# Altium integrated library Capacitor - Ceramic - Sumsung.IntLib: 1421 symbols (part 4 of 22)
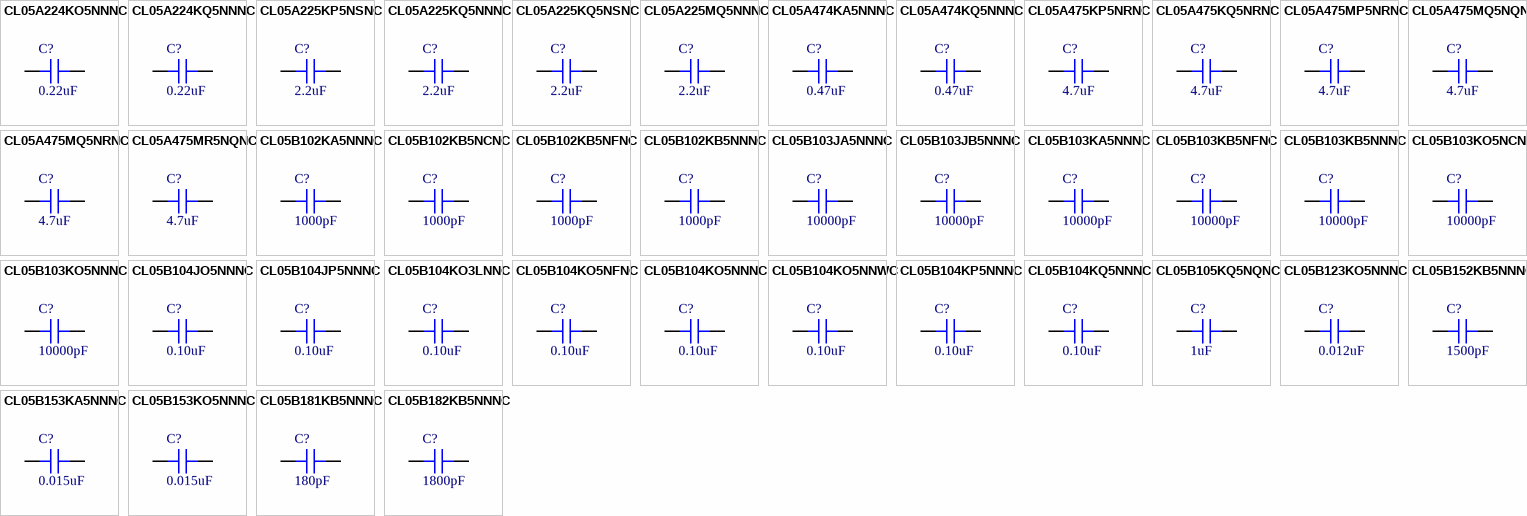
[diagram p38: symbols CL05A224KO5NNNC to CL05B182KB5NNNC]

## CL05B104KQ5NNNC
designator C?, comment 0.10uF
CAP CER 0.1UF 6.3V X7R 0402; Part Number: CL05B104KQ5NNNC; Manufacturer: Samsung Electro-Mechanics America, Inc.; TemperatureRange: -55C ~ 125C; Tolerance: 10%; Value: 0.10uF; PartId: 12498; Supplier 1: Digi-Key; Supplier Part Number 1: 1276-1511-2-ND; ComponentLink1Description: Datasheet; ComponentLink1URL: http://www.samsungsem.com/kr/support/product-search/mlcc/CL05B104KQ5NNNC.jsp; ComponentLink2Description: Digi-Key Listing; ComponentLink2URL: https://www.digikey.com/product-detail/en/samsung-electro-mechanics-america-inc/CL05B104KQ5NNNC/1276-1511-2-ND/3887169; TemperatureCoefficient: X7R; Voltage: 6.3V; Price: 0.002; Device Package: 0402 (1005 Metric)
footprint CAP 0402/1005
pins: 1, 2

## CL05B105KQ5NQNC
designator C?, comment 1uF
CAP CER 1UF 6.3V X7R 0402; Part Number: CL05B105KQ5NQNC; Manufacturer: Samsung Electro-Mechanics America, Inc.; TemperatureRange: -55C ~ 125C; Tolerance: 10%; Value: 1uF; PartId: 12391; Supplier 1: Digi-Key; Supplier Part Number 1: 1276-1513-2-ND; ComponentLink1Description: Datasheet; ComponentLink1URL: http://www.samsungsem.com/kr/support/library/product-catalog/__icsFiles/afieldfile/2015/11/18/MLCC.pdf; ComponentLink2Description: Digi-Key Listing; ComponentLink2URL: https://www.digikey.com/product-detail/en/samsung-electro-mechanics-america-inc/CL05B105KQ5NQNC/1276-1513-2-ND/3887171; TemperatureCoefficient: X7R; Voltage: 6.3V; Price: 0.038; Device Package: 0402 (1005 Metric)
footprint CAP 0402/1005
pins: 1, 2

## CL05B123KO5NNNC
designator C?, comment 0.012uF
CAP CER 0.012UF 16V X7R 0402; Part Number: CL05B123KO5NNNC; Manufacturer: Samsung Electro-Mechanics America, Inc.; TemperatureRange: -55C ~ 125C; Tolerance: 10%; Value: 0.012uF; PartId: 12880; Supplier 1: Digi-Key; Supplier Part Number 1: 1276-1517-2-ND; ComponentLink1Description: Datasheet; ComponentLink1URL: http://www.samsungsem.com/kr/support/product-search/mlcc/CL05B123KO5NNNC.jsp; ComponentLink2Description: Digi-Key Listing; ComponentLink2URL: https://www.digikey.com/product-detail/en/samsung-electro-mechanics-america-inc/CL05B123KO5NNNC/1276-1517-2-ND/3887175; TemperatureCoefficient: X7R; Voltage: 16V; Price: 0.0055; Device Package: 0402 (1005 Metric)
footprint CAP 0402/1005
pins: 1, 2

## CL05B152KB5NNNC
designator C?, comment 1500pF
CAP CER 1500PF 50V X7R 0402; Part Number: CL05B152KB5NNNC; Manufacturer: Samsung Electro-Mechanics America, Inc.; TemperatureRange: -55C ~ 125C; Tolerance: 10%; Value: 1500pF; PartId: 12651; Supplier 1: Digi-Key; Supplier Part Number 1: 1276-1521-2-ND; ComponentLink1Description: Datasheet; ComponentLink1URL: http://www.samsungsem.com/kr/support/product-search/mlcc/CL05B152KB5NNNC.jsp; ComponentLink2Description: Digi-Key Listing; ComponentLink2URL: https://www.digikey.com/product-detail/en/samsung-electro-mechanics-america-inc/CL05B152KB5NNNC/1276-1521-2-ND/3887179; TemperatureCoefficient: X7R; Voltage: 50V; Price: 0.003; Device Package: 0402 (1005 Metric)
footprint CAP 0402/1005
pins: 1, 2

## CL05B153KA5NNNC
designator C?, comment 0.015uF
CAP CER 0.015UF 25V X7R 0402; Part Number: CL05B153KA5NNNC; Manufacturer: Samsung Electro-Mechanics America, Inc.; TemperatureRange: -55C ~ 125C; Tolerance: 10%; Value: 0.015uF; PartId: 12837; Supplier 1: Digi-Key; Supplier Part Number 1: 1276-1523-2-ND; ComponentLink1Description: Datasheet; ComponentLink1URL: http://www.samsungsem.com/kr/support/product-search/mlcc/CL05B153KA5NNNC.jsp; ComponentLink2Description: Digi-Key Listing; ComponentLink2URL: https://www.digikey.com/product-detail/en/samsung-electro-mechanics-america-inc/CL05B153KA5NNNC/1276-1523-2-ND/3887181; TemperatureCoefficient: X7R; Voltage: 25V; Price: 0.0056; Device Package: 0402 (1005 Metric)
footprint CAP 0402/1005
pins: 1, 2

## CL05B153KO5NNNC
designator C?, comment 0.015uF
CAP CER 0.015UF 16V X7R 0402; Part Number: CL05B153KO5NNNC; Manufacturer: Samsung Electro-Mechanics America, Inc.; TemperatureRange: -55C ~ 125C; Tolerance: 10%; Value: 0.015uF; PartId: 12838; Supplier 1: Digi-Key; Supplier Part Number 1: 1276-1524-2-ND; ComponentLink1Description: Datasheet; ComponentLink1URL: http://www.samsungsem.com/kr/support/product-search/mlcc/CL05B153KO5NNNC.jsp; ComponentLink2Description: Digi-Key Listing; ComponentLink2URL: https://www.digikey.com/product-detail/en/samsung-electro-mechanics-america-inc/CL05B153KO5NNNC/1276-1524-2-ND/3887182; TemperatureCoefficient: X7R; Voltage: 16V; Price: 0.0053; Device Package: 0402 (1005 Metric)
footprint CAP 0402/1005
pins: 1, 2

## CL05B181KB5NNNC
designator C?, comment 180pF
CAP CER 180PF 50V X7R 0402; Part Number: CL05B181KB5NNNC; Manufacturer: Samsung Electro-Mechanics America, Inc.; TemperatureRange: -55C ~ 125C; Tolerance: 10%; Value: 180pF; PartId: 12937; Supplier 1: Digi-Key; Supplier Part Number 1: 1276-1525-2-ND; ComponentLink1Description: Datasheet; ComponentLink1URL: http://www.samsungsem.com/kr/support/product-search/mlcc/CL05B181KB5NNNC.jsp; ComponentLink2Description: Digi-Key Listing; ComponentLink2URL: https://www.digikey.com/product-detail/en/samsung-electro-mechanics-america-inc/CL05B181KB5NNNC/1276-1525-2-ND/3887183; TemperatureCoefficient: X7R; Voltage: 50V; Price: 0.0056; Device Package: 0402 (1005 Metric)
footprint CAP 0402/1005
pins: 1, 2

## CL05B182KB5NNNC
designator C?, comment 1800pF
CAP CER 1800PF 50V X7R 0402; Part Number: CL05B182KB5NNNC; Manufacturer: Samsung Electro-Mechanics America, Inc.; TemperatureRange: -55C ~ 125C; Tolerance: 10%; Value: 1800pF; PartId: 12846; Supplier 1: Digi-Key; Supplier Part Number 1: 1276-1526-2-ND; ComponentLink1Description: Datasheet; ComponentLink1URL: http://www.samsungsem.com/kr/support/product-search/mlcc/CL05B182KB5NNNC.jsp; ComponentLink2Description: Digi-Key Listing; ComponentLink2URL: https://www.digikey.com/product-detail/en/samsung-electro-mechanics-america-inc/CL05B182KB5NNNC/1276-1526-2-ND/3887184; TemperatureCoefficient: X7R; Voltage: 50V; Price: 0.0039; Device Package: 0402 (1005 Metric)
footprint CAP 0402/1005
pins: 1, 2

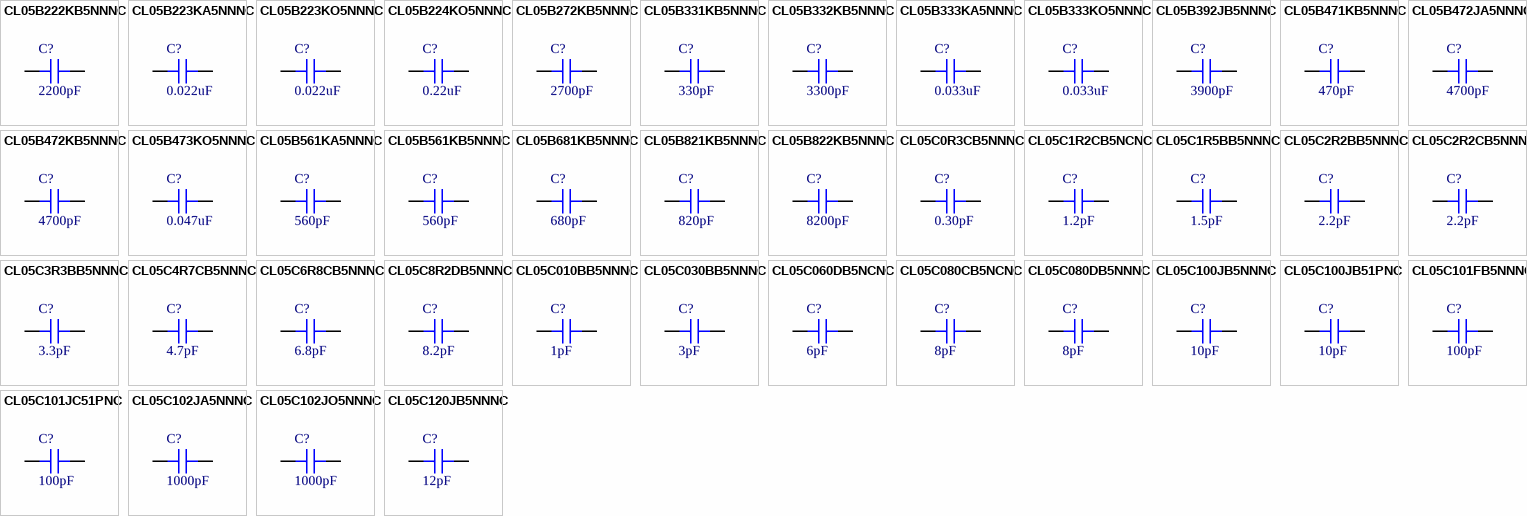
[diagram p5: symbols CL05B222KB5NNNC to CL05C120JB5NNNC]

## CL05B222KB5NNNC
designator C?, comment 2200pF
CAP CER 2200PF 50V X7R 0402; Part Number: CL05B222KB5NNNC; Manufacturer: Samsung Electro-Mechanics America, Inc.; TemperatureRange: -55C ~ 125C; Tolerance: 10%; Value: 2200pF; PartId: 12462; Supplier 1: Digi-Key; Supplier Part Number 1: 1276-1054-2-ND; ComponentLink1Description: Datasheet; ComponentLink1URL: http://www.samsungsem.com/kr/support/product-search/mlcc/CL05B222KB5NNNC.jsp; ComponentLink2Description: Digi-Key Listing; ComponentLink2URL: https://www.digikey.com/product-detail/en/samsung-electro-mechanics-america-inc/CL05B222KB5NNNC/1276-1054-2-ND/3886712; TemperatureCoefficient: X7R; Voltage: 50V; Price: 0.0023; Device Package: 0402 (1005 Metric)
footprint CAP 0402/1005
pins: 1, 2

## CL05B223KA5NNNC
designator C?, comment 0.022uF
CAP CER 0.022UF 25V X7R 0402; Part Number: CL05B223KA5NNNC; Manufacturer: Samsung Electro-Mechanics America, Inc.; TemperatureRange: -55C ~ 125C; Tolerance: 10%; Value: 0.022uF; PartId: 12650; Supplier 1: Digi-Key; Supplier Part Number 1: 1276-1537-2-ND; ComponentLink1Description: Datasheet; ComponentLink1URL: http://www.samsungsem.com/kr/support/product-search/mlcc/CL05B223KA5NNNC.jsp; ComponentLink2Description: Digi-Key Listing; ComponentLink2URL: https://www.digikey.com/product-detail/en/samsung-electro-mechanics-america-inc/CL05B223KA5NNNC/1276-1537-2-ND/3887195; TemperatureCoefficient: X7R; Voltage: 25V; Price: 0.0031; Device Package: 0402 (1005 Metric)
footprint CAP 0402/1005
pins: 1, 2

## CL05B223KO5NNNC
designator C?, comment 0.022uF
CAP CER 0.022UF 16V X7R 0402; Part Number: CL05B223KO5NNNC; Manufacturer: Samsung Electro-Mechanics America, Inc.; TemperatureRange: -55C ~ 125C; Tolerance: 10%; Value: 0.022uF; PartId: 12545; Supplier 1: Digi-Key; Supplier Part Number 1: 1276-1175-2-ND; ComponentLink1Description: Datasheet; ComponentLink1URL: http://www.samsungsem.com/kr/support/product-search/mlcc/CL05B223KO5NNNC.jsp; ComponentLink2Description: Digi-Key Listing; ComponentLink2URL: https://www.digikey.com/product-detail/en/samsung-electro-mechanics-america-inc/CL05B223KO5NNNC/1276-1175-2-ND/3886833; TemperatureCoefficient: X7R; Voltage: 16V; Price: 0.0026; Device Package: 0402 (1005 Metric)
footprint CAP 0402/1005
pins: 1, 2

## CL05B224KO5NNNC
designator C?, comment 0.22uF
CAP CER 0.22UF 16V X7R 0402; Part Number: CL05B224KO5NNNC; Manufacturer: Samsung Electro-Mechanics America, Inc.; TemperatureRange: -55C ~ 125C; Tolerance: 10%; Value: 0.22uF; PartId: 12491; Supplier 1: Digi-Key; Supplier Part Number 1: 1276-1176-2-ND; ComponentLink1Description: Datasheet; ComponentLink1URL: http://www.samsungsem.com/kr/support/product-search/mlcc/CL05B224KO5NNNC.jsp; ComponentLink2Description: Digi-Key Listing; ComponentLink2URL: https://www.digikey.com/product-detail/en/samsung-electro-mechanics-america-inc/CL05B224KO5NNNC/1276-1176-2-ND/3886834; TemperatureCoefficient: X7R; Voltage: 16V; Price: 0.0098; Device Package: 0402 (1005 Metric)
footprint CAP 0402/1005
pins: 1, 2

## CL05B272KB5NNNC
designator C?, comment 2700pF
CAP CER 2700PF 50V X7R 0402; Part Number: CL05B272KB5NNNC; Manufacturer: Samsung Electro-Mechanics America, Inc.; TemperatureRange: -55C ~ 125C; Tolerance: 10%; Value: 2700pF; PartId: 12684; Supplier 1: Digi-Key; Supplier Part Number 1: 1276-1268-2-ND; ComponentLink1Description: Datasheet; ComponentLink1URL: http://www.samsungsem.com/kr/support/product-search/mlcc/CL05B272KB5NNNC.jsp; ComponentLink2Description: Digi-Key Listing; ComponentLink2URL: https://www.digikey.com/product-detail/en/samsung-electro-mechanics-america-inc/CL05B272KB5NNNC/1276-1268-2-ND/3886926; TemperatureCoefficient: X7R; Voltage: 50V; Price: 0.0022; Device Package: 0402 (1005 Metric)
footprint CAP 0402/1005
pins: 1, 2

## CL05B331KB5NNNC
designator C?, comment 330pF
CAP CER 330PF 50V X7R 0402; Part Number: CL05B331KB5NNNC; Manufacturer: Samsung Electro-Mechanics America, Inc.; TemperatureRange: -55C ~ 125C; Tolerance: 10%; Value: 330pF; PartId: 12658; Supplier 1: Digi-Key; Supplier Part Number 1: 1276-1546-2-ND; ComponentLink1Description: Datasheet; ComponentLink1URL: http://www.samsungsem.com/kr/support/product-search/mlcc/CL05B331KB5NNNC.jsp; ComponentLink2Description: Digi-Key Listing; ComponentLink2URL: https://www.digikey.com/product-detail/en/samsung-electro-mechanics-america-inc/CL05B331KB5NNNC/1276-1546-2-ND/3887204; TemperatureCoefficient: X7R; Voltage: 50V; Price: 0.0022; Device Package: 0402 (1005 Metric)
footprint CAP 0402/1005
pins: 1, 2

## CL05B332KB5NNNC
designator C?, comment 3300pF
CAP CER 3300PF 50V X7R 0402; Part Number: CL05B332KB5NNNC; Manufacturer: Samsung Electro-Mechanics America, Inc.; TemperatureRange: -55C ~ 125C; Tolerance: 10%; Value: 3300pF; PartId: 12680; Supplier 1: Digi-Key; Supplier Part Number 1: 1276-1552-2-ND; ComponentLink1Description: Datasheet; ComponentLink1URL: http://www.samsungsem.com/kr/support/product-search/mlcc/CL05B332KB5NNNC.jsp; ComponentLink2Description: Digi-Key Listing; ComponentLink2URL: https://www.digikey.com/product-detail/en/samsung-electro-mechanics-america-inc/CL05B332KB5NNNC/1276-1552-2-ND/3887210; TemperatureCoefficient: X7R; Voltage: 50V; Price: 0.003; Device Package: 0402 (1005 Metric)
footprint CAP 0402/1005
pins: 1, 2

## CL05B333KA5NNNC
designator C?, comment 0.033uF
CAP CER 0.033UF 25V X7R 0402; Part Number: CL05B333KA5NNNC; Manufacturer: Samsung Electro-Mechanics America, Inc.; TemperatureRange: -55C ~ 125C; Tolerance: 10%; Value: 0.033uF; PartId: 12930; Supplier 1: Digi-Key; Supplier Part Number 1: 1276-1554-2-ND; ComponentLink1Description: Datasheet; ComponentLink1URL: http://www.samsungsem.com/kr/support/product-search/mlcc/CL05B333KA5NNNC.jsp; ComponentLink2Description: Digi-Key Listing; ComponentLink2URL: https://www.digikey.com/product-detail/en/samsung-electro-mechanics-america-inc/CL05B333KA5NNNC/1276-1554-2-ND/3887212; TemperatureCoefficient: X7R; Voltage: 25V; Price: 0.0084; Device Package: 0402 (1005 Metric)
footprint CAP 0402/1005
pins: 1, 2

## CL05B333KO5NNNC
designator C?, comment 0.033uF
CAP CER 0.033UF 16V X7R 0402; Part Number: CL05B333KO5NNNC; Manufacturer: Samsung Electro-Mechanics America, Inc.; TemperatureRange: -55C ~ 125C; Tolerance: 10%; Value: 0.033uF; PartId: 12645; Supplier 1: Digi-Key; Supplier Part Number 1: 1276-1177-2-ND; ComponentLink1Description: Datasheet; ComponentLink1URL: http://www.samsungsem.com/kr/support/product-search/mlcc/CL05B333KO5NNNC.jsp; ComponentLink2Description: Digi-Key Listing; ComponentLink2URL: https://www.digikey.com/product-detail/en/samsung-electro-mechanics-america-inc/CL05B333KO5NNNC/1276-1177-2-ND/3886835; TemperatureCoefficient: X7R; Voltage: 16V; Price: 0.0043; Device Package: 0402 (1005 Metric)
footprint CAP 0402/1005
pins: 1, 2

## CL05B392JB5NNNC
designator C?, comment 3900pF
CAP CER 3900PF 50V X7R 0402; Part Number: CL05B392JB5NNNC; Manufacturer: Samsung Electro-Mechanics America, Inc.; TemperatureRange: -55C ~ 125C; Tolerance: 5%; Value: 3900pF; PartId: 12852; Supplier 1: Digi-Key; Supplier Part Number 1: 1276-1561-2-ND; ComponentLink1Description: Datasheet; ComponentLink1URL: http://www.samsungsem.com/kr/support/product-search/mlcc/CL05B392JB5NNNC.jsp; ComponentLink2Description: Digi-Key Listing; ComponentLink2URL: https://www.digikey.com/product-detail/en/samsung-electro-mechanics-america-inc/CL05B392JB5NNNC/1276-1561-2-ND/3887219; TemperatureCoefficient: X7R; Voltage: 50V; Price: 0.0026; Device Package: 0402 (1005 Metric)
footprint CAP 0402/1005
pins: 1, 2

## CL05B471KB5NNNC
designator C?, comment 470pF
CAP CER 470PF 50V X7R 0402; Part Number: CL05B471KB5NNNC; Manufacturer: Samsung Electro-Mechanics America, Inc.; TemperatureRange: -55C ~ 125C; Tolerance: 10%; Value: 470pF; PartId: 12535; Supplier 1: Digi-Key; Supplier Part Number 1: 1276-1566-2-ND; ComponentLink1Description: Datasheet; ComponentLink1URL: http://www.samsungsem.com/kr/support/product-search/mlcc/CL05B471KB5NNNC.jsp; ComponentLink2Description: Digi-Key Listing; ComponentLink2URL: https://www.digikey.com/product-detail/en/samsung-electro-mechanics-america-inc/CL05B471KB5NNNC/1276-1566-2-ND/3887224; TemperatureCoefficient: X7R; Voltage: 50V; Price: 0.0022; Device Package: 0402 (1005 Metric)
footprint CAP 0402/1005
pins: 1, 2

## CL05B472JA5NNNC
designator C?, comment 4700pF
CAP CER 4700PF 25V X7R 0402; Part Number: CL05B472JA5NNNC; Manufacturer: Samsung Electro-Mechanics America, Inc.; TemperatureRange: -55C ~ 125C; Tolerance: 5%; Value: 4700pF; PartId: 12801; Supplier 1: Digi-Key; Supplier Part Number 1: 1276-1567-2-ND; ComponentLink1Description: Datasheet; ComponentLink1URL: http://www.samsungsem.com/kr/support/product-search/mlcc/CL05B472JA5NNNC.jsp; ComponentLink2Description: Digi-Key Listing; ComponentLink2URL: https://www.digikey.com/product-detail/en/samsung-electro-mechanics-america-inc/CL05B472JA5NNNC/1276-1567-2-ND/3887225; TemperatureCoefficient: X7R; Voltage: 25V; Price: 0.0048; Device Package: 0402 (1005 Metric)
footprint CAP 0402/1005
pins: 1, 2

## CL05B472KB5NNNC
designator C?, comment 4700pF
CAP CER 4700PF 50V X7R 0402; Part Number: CL05B472KB5NNNC; Manufacturer: Samsung Electro-Mechanics America, Inc.; TemperatureRange: -55C ~ 125C; Tolerance: 10%; Value: 4700pF; PartId: 12600; Supplier 1: Digi-Key; Supplier Part Number 1: 1276-1125-2-ND; ComponentLink1Description: Datasheet; ComponentLink1URL: http://www.samsungsem.com/kr/support/product-search/mlcc/CL05B472KB5NNNC.jsp; ComponentLink2Description: Digi-Key Listing; ComponentLink2URL: https://www.digikey.com/product-detail/en/samsung-electro-mechanics-america-inc/CL05B472KB5NNNC/1276-1125-2-ND/3886783; TemperatureCoefficient: X7R; Voltage: 50V; Price: 0.0025; Device Package: 0402 (1005 Metric)
footprint CAP 0402/1005
pins: 1, 2

## CL05B473KO5NNNC
designator C?, comment 0.047uF
CAP CER 0.047UF 16V X7R 0402; Part Number: CL05B473KO5NNNC; Manufacturer: Samsung Electro-Mechanics America, Inc.; TemperatureRange: -55C ~ 125C; Tolerance: 10%; Value: 0.047uF; PartId: 12570; Supplier 1: Digi-Key; Supplier Part Number 1: 1276-1077-2-ND; ComponentLink1Description: Datasheet; ComponentLink1URL: http://www.samsungsem.com/kr/support/product-search/mlcc/CL05B473KO5NNNC.jsp; ComponentLink2Description: Digi-Key Listing; ComponentLink2URL: https://www.digikey.com/product-detail/en/samsung-electro-mechanics-america-inc/CL05B473KO5NNNC/1276-1077-2-ND/3886735; TemperatureCoefficient: X7R; Voltage: 16V; Price: 0.0025; Device Package: 0402 (1005 Metric)
footprint CAP 0402/1005
pins: 1, 2

## CL05B561KA5NNNC
designator C?, comment 560pF
CAP CER 560PF 25V X7R 0402; Part Number: CL05B561KA5NNNC; Manufacturer: Samsung Electro-Mechanics America, Inc.; TemperatureRange: -55C ~ 125C; Tolerance: 10%; Value: 560pF; PartId: 12803; Supplier 1: Digi-Key; Supplier Part Number 1: 1276-1576-2-ND; ComponentLink1Description: Datasheet; ComponentLink1URL: http://www.samsungsem.com/kr/support/product-search/mlcc/CL05B561KA5NNNC.jsp; ComponentLink2Description: Digi-Key Listing; ComponentLink2URL: https://www.digikey.com/product-detail/en/samsung-electro-mechanics-america-inc/CL05B561KA5NNNC/1276-1576-2-ND/3887234; TemperatureCoefficient: X7R; Voltage: 25V; Price: 0.0022; Device Package: 0402 (1005 Metric)
footprint CAP 0402/1005
pins: 1, 2

## CL05B561KB5NNNC
designator C?, comment 560pF
CAP CER 560PF 50V X7R 0402; Part Number: CL05B561KB5NNNC; Manufacturer: Samsung Electro-Mechanics America, Inc.; TemperatureRange: -55C ~ 125C; Tolerance: 10%; Value: 560pF; PartId: 12657; Supplier 1: Digi-Key; Supplier Part Number 1: 1276-1577-2-ND; ComponentLink1Description: Datasheet; ComponentLink1URL: http://www.samsungsem.com/kr/support/product-search/mlcc/CL05B561KB5NNNC.jsp; ComponentLink2Description: Digi-Key Listing; ComponentLink2URL: https://www.digikey.com/product-detail/en/samsung-electro-mechanics-america-inc/CL05B561KB5NNNC/1276-1577-2-ND/3887235; TemperatureCoefficient: X7R; Voltage: 50V; Price: 0.0022; Device Package: 0402 (1005 Metric)
footprint CAP 0402/1005
pins: 1, 2

## CL05B681KB5NNNC
designator C?, comment 680pF
CAP CER 680PF 50V X7R 0402; Part Number: CL05B681KB5NNNC; Manufacturer: Samsung Electro-Mechanics America, Inc.; TemperatureRange: -55C ~ 125C; Tolerance: 10%; Value: 680pF; PartId: 12854; Supplier 1: Digi-Key; Supplier Part Number 1: 1276-1583-2-ND; ComponentLink1Description: Datasheet; ComponentLink1URL: http://www.samsungsem.com/kr/support/product-search/mlcc/CL05B681KB5NNNC.jsp; ComponentLink2Description: Digi-Key Listing; ComponentLink2URL: https://www.digikey.com/product-detail/en/samsung-electro-mechanics-america-inc/CL05B681KB5NNNC/1276-1583-2-ND/3887241; TemperatureCoefficient: X7R; Voltage: 50V; Price: 0.0022; Device Package: 0402 (1005 Metric)
footprint CAP 0402/1005
pins: 1, 2

## CL05B821KB5NNNC
designator C?, comment 820pF
CAP CER 820PF 50V X7R 0402; Part Number: CL05B821KB5NNNC; Manufacturer: Samsung Electro-Mechanics America, Inc.; TemperatureRange: -55C ~ 125C; Tolerance: 10%; Value: 820pF; PartId: 12841; Supplier 1: Digi-Key; Supplier Part Number 1: 1276-1589-2-ND; ComponentLink1Description: Datasheet; ComponentLink1URL: http://www.samsungsem.com/kr/support/product-search/mlcc/CL05B821KB5NNNC.jsp; ComponentLink2Description: Digi-Key Listing; ComponentLink2URL: https://www.digikey.com/product-detail/en/samsung-electro-mechanics-america-inc/CL05B821KB5NNNC/1276-1589-2-ND/3887247; TemperatureCoefficient: X7R; Voltage: 50V; Price: 0.0044; Device Package: 0402 (1005 Metric)
footprint CAP 0402/1005
pins: 1, 2

## CL05B822KB5NNNC
designator C?, comment 8200pF
CAP CER 8200PF 50V X7R 0402; Part Number: CL05B822KB5NNNC; Manufacturer: Samsung Electro-Mechanics America, Inc.; TemperatureRange: -55C ~ 125C; Tolerance: 10%; Value: 8200pF; PartId: 12642; Supplier 1: Digi-Key; Supplier Part Number 1: 1276-1591-2-ND; ComponentLink1Description: Datasheet; ComponentLink1URL: http://www.samsungsem.com/kr/support/product-search/mlcc/CL05B822KB5NNNC.jsp; ComponentLink2Description: Digi-Key Listing; ComponentLink2URL: https://www.digikey.com/product-detail/en/samsung-electro-mechanics-america-inc/CL05B822KB5NNNC/1276-1591-2-ND/3887249; TemperatureCoefficient: X7R; Voltage: 50V; Price: 0.0056; Device Package: 0402 (1005 Metric)
footprint CAP 0402/1005
pins: 1, 2

## CL05C0R3CB5NNNC
designator C?, comment 0.30pF
CAP CER 0.3PF 50V NP0 0402; Part Number: CL05C0R3CB5NNNC; Manufacturer: Samsung Electro-Mechanics America, Inc.; TemperatureRange: -55C ~ 125C; TemperatureCoefficient: C0G, NP0; Tolerance: 0.25pF; Value: 0.30pF; PartId: 12855; Supplier 1: Digi-Key; Supplier Part Number 1: 1276-1618-2-ND; ComponentLink1Description: Datasheet; ComponentLink1URL: http://www.samsungsem.com/kr/support/product-search/mlcc/CL05C0R3CB5NNNC.jsp; ComponentLink2Description: Digi-Key Listing; ComponentLink2URL: https://www.digikey.com/product-detail/en/samsung-electro-mechanics-america-inc/CL05C0R3CB5NNNC/1276-1618-2-ND/3887276; Voltage: 50V; Price: 0.0017; Device Package: 0402 (1005 Metric)
footprint CAP 0402/1005
pins: 1, 2

## CL05C1R2CB5NCNC
designator C?, comment 1.2pF
CAP CER 1.2PF 50V NP0 0402; Part Number: CL05C1R2CB5NCNC; Manufacturer: Samsung Electro-Mechanics America, Inc.; TemperatureRange: -55C ~ 125C; TemperatureCoefficient: C0G, NP0; Tolerance: 0.25pF; Value: 1.2pF; PartId: 12802; Supplier 1: Digi-Key; Supplier Part Number 1: 1276-1653-2-ND; ComponentLink1Description: Datasheet; ComponentLink1URL: http://www.samsungsem.com/kr/support/library/product-catalog/__icsFiles/afieldfile/2015/11/18/MLCC.pdf; ComponentLink2Description: Digi-Key Listing; ComponentLink2URL: https://www.digikey.com/product-detail/en/samsung-electro-mechanics-america-inc/CL05C1R2CB5NCNC/1276-1653-2-ND/3887311; Voltage: 50V; Price: 0.0042; Device Package: 0402 (1005 Metric)
footprint CAP 0402/1005
pins: 1, 2

## CL05C1R5BB5NNNC
designator C?, comment 1.5pF
CAP CER 1.5PF 50V NP0 0402; Part Number: CL05C1R5BB5NNNC; Manufacturer: Samsung Electro-Mechanics America, Inc.; TemperatureRange: -55C ~ 125C; TemperatureCoefficient: C0G, NP0; Tolerance: 0.1pF; Value: 1.5pF; PartId: 12942; Supplier 1: Digi-Key; Supplier Part Number 1: 1276-1656-2-ND; ComponentLink1Description: Datasheet; ComponentLink1URL: http://www.samsungsem.com/kr/support/product-search/mlcc/CL05C1R5BB5NNNC.jsp; ComponentLink2Description: Digi-Key Listing; ComponentLink2URL: https://www.digikey.com/product-detail/en/samsung-electro-mechanics-america-inc/CL05C1R5BB5NNNC/1276-1656-2-ND/3887314; Voltage: 50V; Price: 0.0046; Device Package: 0402 (1005 Metric)
footprint CAP 0402/1005
pins: 1, 2

## CL05C2R2BB5NNNC
designator C?, comment 2.2pF
CAP CER 2.2PF 50V NP0 0402; Part Number: CL05C2R2BB5NNNC; Manufacturer: Samsung Electro-Mechanics America, Inc.; TemperatureRange: -55C ~ 125C; TemperatureCoefficient: C0G, NP0; Tolerance: 0.1pF; Value: 2.2pF; PartId: 12673; Supplier 1: Digi-Key; Supplier Part Number 1: 1276-1674-2-ND; ComponentLink1Description: Datasheet; ComponentLink1URL: http://www.samsungsem.com/kr/support/product-search/mlcc/CL05C2R2BB5NNNC.jsp; ComponentLink2Description: Digi-Key Listing; ComponentLink2URL: https://www.digikey.com/product-detail/en/samsung-electro-mechanics-america-inc/CL05C2R2BB5NNNC/1276-1674-2-ND/3887332; Voltage: 50V; Price: 0.0071; Device Package: 0402 (1005 Metric)
footprint CAP 0402/1005
pins: 1, 2

## CL05C2R2CB5NNNC
designator C?, comment 2.2pF
CAP CER 2.2PF 50V NP0 0402; Part Number: CL05C2R2CB5NNNC; Manufacturer: Samsung Electro-Mechanics America, Inc.; TemperatureRange: -55C ~ 125C; TemperatureCoefficient: C0G, NP0; Tolerance: 0.25pF; Value: 2.2pF; PartId: 12851; Supplier 1: Digi-Key; Supplier Part Number 1: 1276-1271-2-ND; ComponentLink1Description: Datasheet; ComponentLink1URL: http://www.samsungsem.com/kr/support/product-search/mlcc/CL05C2R2CB5NNNC.jsp; ComponentLink2Description: Digi-Key Listing; ComponentLink2URL: https://www.digikey.com/product-detail/en/samsung-electro-mechanics-america-inc/CL05C2R2CB5NNNC/1276-1271-2-ND/3886929; Voltage: 50V; Price: 0.0028; Device Package: 0402 (1005 Metric)
footprint CAP 0402/1005
pins: 1, 2

## CL05C3R3BB5NNNC
designator C?, comment 3.3pF
CAP CER 3.3PF 50V NP0 0402; Part Number: CL05C3R3BB5NNNC; Manufacturer: Samsung Electro-Mechanics America, Inc.; TemperatureRange: -55C ~ 125C; TemperatureCoefficient: C0G, NP0; Tolerance: 0.1pF; Value: 3.3pF; PartId: 12765; Supplier 1: Digi-Key; Supplier Part Number 1: 1276-1690-2-ND; ComponentLink1Description: Datasheet; ComponentLink1URL: http://www.samsungsem.com/kr/support/product-search/mlcc/CL05C3R3BB5NNNC.jsp; ComponentLink2Description: Digi-Key Listing; ComponentLink2URL: https://www.digikey.com/product-detail/en/samsung-electro-mechanics-america-inc/CL05C3R3BB5NNNC/1276-1690-2-ND/3887348; Voltage: 50V; Price: 0.0056; Device Package: 0402 (1005 Metric)
footprint CAP 0402/1005
pins: 1, 2

## CL05C4R7CB5NNNC
designator C?, comment 4.7pF
CAP CER 4.7PF 50V NP0 0402; Part Number: CL05C4R7CB5NNNC; Manufacturer: Samsung Electro-Mechanics America, Inc.; TemperatureRange: -55C ~ 125C; TemperatureCoefficient: C0G, NP0; Tolerance: 0.25pF; Value: 4.7pF; PartId: 12652; Supplier 1: Digi-Key; Supplier Part Number 1: 1276-1703-2-ND; ComponentLink1Description: Datasheet; ComponentLink1URL: http://www.samsungsem.com/kr/support/product-search/mlcc/CL05C4R7CB5NNNC.jsp; ComponentLink2Description: Digi-Key Listing; ComponentLink2URL: https://www.digikey.com/product-detail/en/samsung-electro-mechanics-america-inc/CL05C4R7CB5NNNC/1276-1703-2-ND/3887361; Voltage: 50V; Price: 0.0029; Device Package: 0402 (1005 Metric)
footprint CAP 0402/1005
pins: 1, 2

## CL05C6R8CB5NNNC
designator C?, comment 6.8pF
CAP CER 6.8PF 50V NP0 0402; Part Number: CL05C6R8CB5NNNC; Manufacturer: Samsung Electro-Mechanics America, Inc.; TemperatureRange: -55C ~ 125C; TemperatureCoefficient: C0G, NP0; Tolerance: 0.25pF; Value: 6.8pF; PartId: 12644; Supplier 1: Digi-Key; Supplier Part Number 1: 1276-1721-2-ND; ComponentLink1Description: Datasheet; ComponentLink1URL: http://www.samsungsem.com/kr/support/product-search/mlcc/CL05C6R8CB5NNNC.jsp; ComponentLink2Description: Digi-Key Listing; ComponentLink2URL: https://www.digikey.com/product-detail/en/samsung-electro-mechanics-america-inc/CL05C6R8CB5NNNC/1276-1721-2-ND/3887379; Voltage: 50V; Price: 0.0048; Device Package: 0402 (1005 Metric)
footprint CAP 0402/1005
pins: 1, 2

## CL05C8R2DB5NNNC
designator C?, comment 8.2pF
CAP CER 8.2PF 50V NP0 0402; Part Number: CL05C8R2DB5NNNC; Manufacturer: Samsung Electro-Mechanics America, Inc.; TemperatureRange: -55C ~ 125C; TemperatureCoefficient: C0G, NP0; Tolerance: 0.5pF; Value: 8.2pF; PartId: 12553; Supplier 1: Digi-Key; Supplier Part Number 1: 1276-1730-2-ND; ComponentLink1Description: Datasheet; ComponentLink1URL: http://www.samsungsem.com/kr/support/product-search/mlcc/CL05C8R2DB5NNNC.jsp; ComponentLink2Description: Digi-Key Listing; ComponentLink2URL: https://www.digikey.com/product-detail/en/samsung-electro-mechanics-america-inc/CL05C8R2DB5NNNC/1276-1730-2-ND/3887388; Voltage: 50V; Price: 0.0037; Device Package: 0402 (1005 Metric)
footprint CAP 0402/1005
pins: 1, 2

## CL05C010BB5NNNC
designator C?, comment 1pF
CAP CER 1PF 50V NP0 0402; Part Number: CL05C010BB5NNNC; Manufacturer: Samsung Electro-Mechanics America, Inc.; TemperatureRange: -55C ~ 125C; TemperatureCoefficient: C0G, NP0; Tolerance: 0.1pF; Value: 1pF; PartId: 12943; Supplier 1: Digi-Key; Supplier Part Number 1: 1276-1237-2-ND; ComponentLink1Description: Datasheet; ComponentLink1URL: http://www.samsungsem.com/kr/support/product-search/mlcc/CL05C010BB5NNNC.jsp; ComponentLink2Description: Digi-Key Listing; ComponentLink2URL: https://www.digikey.com/product-detail/en/samsung-electro-mechanics-america-inc/CL05C010BB5NNNC/1276-1237-2-ND/3886895; Voltage: 50V; Price: 0.0046; Device Package: 0402 (1005 Metric)
footprint CAP 0402/1005
pins: 1, 2

## CL05C030BB5NNNC
designator C?, comment 3pF
CAP CER 3PF 50V NP0 0402; Part Number: CL05C030BB5NNNC; Manufacturer: Samsung Electro-Mechanics America, Inc.; TemperatureRange: -55C ~ 125C; TemperatureCoefficient: C0G, NP0; Tolerance: 0.1pF; Value: 3pF; PartId: 12771; Supplier 1: Digi-Key; Supplier Part Number 1: 1276-1597-2-ND; ComponentLink1Description: Datasheet; ComponentLink1URL: http://www.samsungsem.com/kr/support/product-search/mlcc/CL05C030BB5NNNC.jsp; ComponentLink2Description: Digi-Key Listing; ComponentLink2URL: https://www.digikey.com/product-detail/en/samsung-electro-mechanics-america-inc/CL05C030BB5NNNC/1276-1597-2-ND/3887255; Voltage: 50V; Price: 0.0046; Device Package: 0402 (1005 Metric)
footprint CAP 0402/1005
pins: 1, 2

## CL05C060DB5NCNC
designator C?, comment 6pF
CAP CER 6PF 50V NP0 0402; Part Number: CL05C060DB5NCNC; Manufacturer: Samsung Electro-Mechanics America, Inc.; TemperatureRange: -55C ~ 125C; TemperatureCoefficient: C0G, NP0; Tolerance: 0.5pF; Value: 6pF; PartId: 12524; Supplier 1: Digi-Key; Supplier Part Number 1: 1276-1608-2-ND; ComponentLink1Description: Datasheet; ComponentLink1URL: http://www.samsungsem.com/kr/support/library/product-catalog/__icsFiles/afieldfile/2015/11/18/MLCC.pdf; ComponentLink2Description: Digi-Key Listing; ComponentLink2URL: https://www.digikey.com/product-detail/en/samsung-electro-mechanics-america-inc/CL05C060DB5NCNC/1276-1608-2-ND/3887266; Voltage: 50V; Price: 0.0036; Device Package: 0402 (1005 Metric)
footprint CAP 0402/1005
pins: 1, 2

## CL05C080CB5NCNC
designator C?, comment 8pF
CAP CER 8PF 50V NP0 0402; Part Number: CL05C080CB5NCNC; Manufacturer: Samsung Electro-Mechanics America, Inc.; TemperatureRange: -55C ~ 125C; TemperatureCoefficient: C0G, NP0; Tolerance: 0.25pF; Value: 8pF; PartId: 12860; Supplier 1: Digi-Key; Supplier Part Number 1: 1276-1613-2-ND; ComponentLink1Description: Datasheet; ComponentLink1URL: http://www.samsungsem.com/kr/support/library/product-catalog/__icsFiles/afieldfile/2015/11/18/MLCC.pdf; ComponentLink2Description: Digi-Key Listing; ComponentLink2URL: https://www.digikey.com/product-detail/en/samsung-electro-mechanics-america-inc/CL05C080CB5NCNC/1276-1613-2-ND/3887271; Voltage: 50V; Price: 0.0046; Device Package: 0402 (1005 Metric)
footprint CAP 0402/1005
pins: 1, 2

## CL05C080DB5NNNC
designator C?, comment 8pF
CAP CER 8PF 50V NP0 0402; Part Number: CL05C080DB5NNNC; Manufacturer: Samsung Electro-Mechanics America, Inc.; TemperatureRange: -55C ~ 125C; TemperatureCoefficient: C0G, NP0; Tolerance: 0.5pF; Value: 8pF; PartId: 12649; Supplier 1: Digi-Key; Supplier Part Number 1: 1276-1615-2-ND; ComponentLink1Description: Datasheet; ComponentLink1URL: http://www.samsungsem.com/kr/support/product-search/mlcc/CL05C080DB5NNNC.jsp; ComponentLink2Description: Digi-Key Listing; ComponentLink2URL: https://www.digikey.com/product-detail/en/samsung-electro-mechanics-america-inc/CL05C080DB5NNNC/1276-1615-2-ND/3887273; Voltage: 50V; Price: 0.0036; Device Package: 0402 (1005 Metric)
footprint CAP 0402/1005
pins: 1, 2

## CL05C100JB5NNNC
designator C?, comment 10pF
CAP CER 10PF 50V NP0 0402; Part Number: CL05C100JB5NNNC; Manufacturer: Samsung Electro-Mechanics America, Inc.; TemperatureRange: -55C ~ 125C; TemperatureCoefficient: C0G, NP0; Tolerance: 5%; Value: 10pF; PartId: 12494; Supplier 1: Digi-Key; Supplier Part Number 1: 1276-1139-2-ND; ComponentLink1Description: Datasheet; ComponentLink1URL: http://www.samsungsem.com/kr/support/product-search/mlcc/CL05C100JB5NNNC.jsp; ComponentLink2Description: Digi-Key Listing; ComponentLink2URL: https://www.digikey.com/product-detail/en/samsung-electro-mechanics-america-inc/CL05C100JB5NNNC/1276-1139-2-ND/3886797; Voltage: 50V; Price: 0.0021; Device Package: 0402 (1005 Metric)
footprint CAP 0402/1005
pins: 1, 2

## CL05C100JB51PNC
designator C?, comment 10pF
CAP CER 10PF 50V NP0 0402; Part Number: CL05C100JB51PNC; Manufacturer: Samsung Electro-Mechanics America, Inc.; TemperatureRange: -55C ~ 125C; TemperatureCoefficient: C0G, NP0; Tolerance: 5%; Value: 10pF; PartId: 12579; Supplier 1: Digi-Key; Supplier Part Number 1: 1276-1626-2-ND; ComponentLink1Description: Datasheet; ComponentLink1URL: http://www.samsungsem.com/kr/support/library/product-catalog/__icsFiles/afieldfile/2015/11/18/MLCC.pdf; ComponentLink2Description: Digi-Key Listing; ComponentLink2URL: https://www.digikey.com/product-detail/en/samsung-electro-mechanics-america-inc/CL05C100JB51PNC/1276-1626-2-ND/3887284; Voltage: 50V; Price: 0.0052; Device Package: 0402 (1005 Metric)
footprint CAP 0402/1005
pins: 1, 2

## CL05C101FB5NNNC
designator C?, comment 100pF
CAP CER 100PF 50V NP0 0402; Part Number: CL05C101FB5NNNC; Manufacturer: Samsung Electro-Mechanics America, Inc.; TemperatureRange: -55C ~ 125C; TemperatureCoefficient: C0G, NP0; Tolerance: 1%; Value: 100pF; PartId: 12826; Supplier 1: Digi-Key; Supplier Part Number 1: 1276-1628-2-ND; ComponentLink1Description: Datasheet; ComponentLink1URL: http://www.samsungsem.com/kr/support/library/product-catalog/__icsFiles/afieldfile/2015/11/18/MLCC.pdf; ComponentLink2Description: Digi-Key Listing; ComponentLink2URL: https://www.digikey.com/product-detail/en/samsung-electro-mechanics-america-inc/CL05C101FB5NNNC/1276-1628-2-ND/3887286; Voltage: 50V; Price: 0.0112; Device Package: 0402 (1005 Metric)
footprint CAP 0402/1005
pins: 1, 2

## CL05C101JC51PNC
designator C?, comment 100pF
CAP CER 100PF 100V NP0 0402; Part Number: CL05C101JC51PNC; Manufacturer: Samsung Electro-Mechanics America, Inc.; TemperatureRange: -55C ~ 125C; TemperatureCoefficient: C0G, NP0; Tolerance: 5%; Value: 100pF; PartId: 12798; Supplier 1: Digi-Key; Supplier Part Number 1: 1276-1632-2-ND; ComponentLink1Description: Datasheet; ComponentLink1URL: http://www.samsungsem.com/kr/support/library/product-catalog/__icsFiles/afieldfile/2015/11/18/MLCC.pdf; ComponentLink2Description: Digi-Key Listing; ComponentLink2URL: https://www.digikey.com/product-detail/en/samsung-electro-mechanics-america-inc/CL05C101JC51PNC/1276-1632-2-ND/3887290; Voltage: 100V; Price: 0.0108; Device Package: 0402 (1005 Metric)
footprint CAP 0402/1005
pins: 1, 2

## CL05C102JA5NNNC
designator C?, comment 1000pF
CAP CER 1000PF 25V NP0 0402; Part Number: CL05C102JA5NNNC; Manufacturer: Samsung Electro-Mechanics America, Inc.; TemperatureRange: -55C ~ 125C; TemperatureCoefficient: C0G, NP0; Tolerance: 5%; Value: 1000pF; PartId: 12495; Supplier 1: Digi-Key; Supplier Part Number 1: 1276-1634-2-ND; ComponentLink1Description: Datasheet; ComponentLink1URL: http://www.samsungsem.com/kr/support/product-search/mlcc/CL05C102JA5NNNC.jsp; ComponentLink2Description: Digi-Key Listing; ComponentLink2URL: https://www.digikey.com/product-detail/en/samsung-electro-mechanics-america-inc/CL05C102JA5NNNC/1276-1634-2-ND/3887292; Voltage: 25V; Price: 0.0105; Device Package: 0402 (1005 Metric)
footprint CAP 0402/1005
pins: 1, 2

## CL05C102JO5NNNC
designator C?, comment 1000pF
CAP CER 1000PF 16V NP0 0402; Part Number: CL05C102JO5NNNC; Manufacturer: Samsung Electro-Mechanics America, Inc.; TemperatureRange: -55C ~ 125C; TemperatureCoefficient: C0G, NP0; Tolerance: 5%; Value: 1000pF; PartId: 12920; Supplier 1: Digi-Key; Supplier Part Number 1: 1276-1636-2-ND; ComponentLink1Description: Datasheet; ComponentLink1URL: http://www.samsungsem.com/kr/support/product-search/mlcc/CL05C102JO5NNNC.jsp; ComponentLink2Description: Digi-Key Listing; ComponentLink2URL: https://www.digikey.com/product-detail/en/samsung-electro-mechanics-america-inc/CL05C102JO5NNNC/1276-1636-2-ND/3887294; Voltage: 16V; Price: 0.0105; Device Package: 0402 (1005 Metric)
footprint CAP 0402/1005
pins: 1, 2

## CL05C120JB5NNNC
designator C?, comment 12pF
CAP CER 12PF 50V NP0 0402; Part Number: CL05C120JB5NNNC; Manufacturer: Samsung Electro-Mechanics America, Inc.; TemperatureRange: -55C ~ 125C; TemperatureCoefficient: C0G, NP0; Tolerance: 5%; Value: 12pF; PartId: 12384; Supplier 1: Digi-Key; Supplier Part Number 1: 1276-1178-2-ND; ComponentLink1Description: Datasheet; ComponentLink1URL: http://www.samsungsem.com/kr/support/product-search/mlcc/CL05C120JB5NNNC.jsp; ComponentLink2Description: Digi-Key Listing; ComponentLink2URL: https://www.digikey.com/product-detail/en/samsung-electro-mechanics-america-inc/CL05C120JB5NNNC/1276-1178-2-ND/3886836; Voltage: 50V; Price: 0.0022; Device Package: 0402 (1005 Metric)
footprint CAP 0402/1005
pins: 1, 2

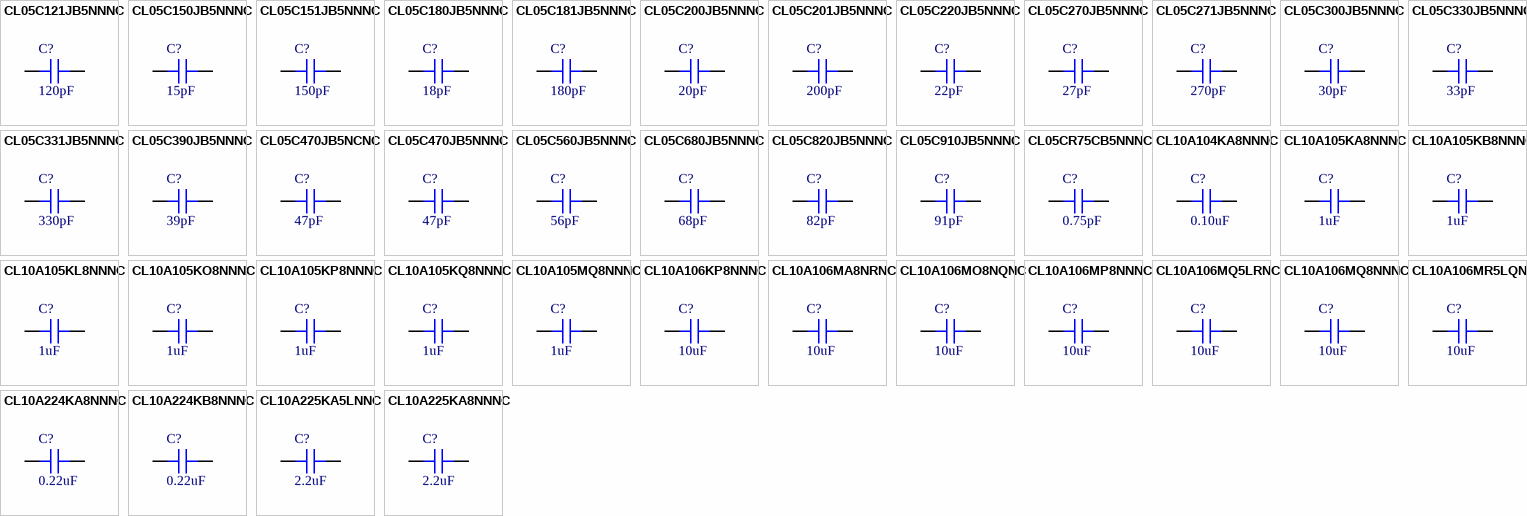
[diagram p6: symbols CL05C121JB5NNNC to CL10A225KA8NNNC]

## CL05C121JB5NNNC
designator C?, comment 120pF
CAP CER 120PF 50V NP0 0402; Part Number: CL05C121JB5NNNC; Manufacturer: Samsung Electro-Mechanics America, Inc.; TemperatureRange: -55C ~ 125C; TemperatureCoefficient: C0G, NP0; Tolerance: 5%; Value: 120pF; PartId: 12568; Supplier 1: Digi-Key; Supplier Part Number 1: 1276-1640-2-ND; ComponentLink1Description: Datasheet; ComponentLink1URL: http://www.samsungsem.com/kr/support/product-search/mlcc/CL05C121JB5NNNC.jsp; ComponentLink2Description: Digi-Key Listing; ComponentLink2URL: https://www.digikey.com/product-detail/en/samsung-electro-mechanics-america-inc/CL05C121JB5NNNC/1276-1640-2-ND/3887298; Voltage: 50V; Price: 0.0035; Device Package: 0402 (1005 Metric)
footprint CAP 0402/1005
pins: 1, 2

## CL05C150JB5NNNC
designator C?, comment 15pF
CAP CER 15PF 50V NP0 0402; Part Number: CL05C150JB5NNNC; Manufacturer: Samsung Electro-Mechanics America, Inc.; TemperatureRange: -55C ~ 125C; TemperatureCoefficient: C0G, NP0; Tolerance: 5%; Value: 15pF; PartId: 12620; Supplier 1: Digi-Key; Supplier Part Number 1: 1276-1179-2-ND; ComponentLink1Description: Datasheet; ComponentLink1URL: http://www.samsungsem.com/kr/support/product-search/mlcc/CL05C150JB5NNNC.jsp; ComponentLink2Description: Digi-Key Listing; ComponentLink2URL: https://www.digikey.com/product-detail/en/samsung-electro-mechanics-america-inc/CL05C150JB5NNNC/1276-1179-2-ND/3886837; Voltage: 50V; Price: 0.0022; Device Package: 0402 (1005 Metric)
footprint CAP 0402/1005
pins: 1, 2

## CL05C151JB5NNNC
designator C?, comment 150pF
CAP CER 150PF 50V NP0 0402; Part Number: CL05C151JB5NNNC; Manufacturer: Samsung Electro-Mechanics America, Inc.; TemperatureRange: -55C ~ 125C; TemperatureCoefficient: C0G, NP0; Tolerance: 5%; Value: 150pF; PartId: 12569; Supplier 1: Digi-Key; Supplier Part Number 1: 1276-1046-2-ND; ComponentLink1Description: Datasheet; ComponentLink1URL: http://www.samsungsem.com/kr/support/product-search/mlcc/CL05C151JB5NNNC.jsp; ComponentLink2Description: Digi-Key Listing; ComponentLink2URL: https://www.digikey.com/product-detail/en/samsung-electro-mechanics-america-inc/CL05C151JB5NNNC/1276-1046-2-ND/3886704; Voltage: 50V; Price: 0.0035; Device Package: 0402 (1005 Metric)
footprint CAP 0402/1005
pins: 1, 2

## CL05C180JB5NNNC
designator C?, comment 18pF
CAP CER 18PF 50V NP0 0402; Part Number: CL05C180JB5NNNC; Manufacturer: Samsung Electro-Mechanics America, Inc.; TemperatureRange: -55C ~ 125C; TemperatureCoefficient: C0G, NP0; Tolerance: 5%; Value: 18pF; PartId: 12459; Supplier 1: Digi-Key; Supplier Part Number 1: 1276-1140-2-ND; ComponentLink1Description: Datasheet; ComponentLink1URL: http://www.samsungsem.com/kr/support/product-search/mlcc/CL05C180JB5NNNC.jsp; ComponentLink2Description: Digi-Key Listing; ComponentLink2URL: https://www.digikey.com/product-detail/en/samsung-electro-mechanics-america-inc/CL05C180JB5NNNC/1276-1140-2-ND/3886798; Voltage: 50V; Price: 0.0022; Device Package: 0402 (1005 Metric)
footprint CAP 0402/1005
pins: 1, 2

## CL05C181JB5NNNC
designator C?, comment 180pF
CAP CER 180PF 50V NP0 0402; Part Number: CL05C181JB5NNNC; Manufacturer: Samsung Electro-Mechanics America, Inc.; TemperatureRange: -55C ~ 125C; TemperatureCoefficient: C0G, NP0; Tolerance: 5%; Value: 180pF; PartId: 12938; Supplier 1: Digi-Key; Supplier Part Number 1: 1276-1651-2-ND; ComponentLink1Description: Datasheet; ComponentLink1URL: http://www.samsungsem.com/kr/support/product-search/mlcc/CL05C181JB5NNNC.jsp; ComponentLink2Description: Digi-Key Listing; ComponentLink2URL: https://www.digikey.com/product-detail/en/samsung-electro-mechanics-america-inc/CL05C181JB5NNNC/1276-1651-2-ND/3887309; Voltage: 50V; Price: 0.0055; Device Package: 0402 (1005 Metric)
footprint CAP 0402/1005
pins: 1, 2

## CL05C200JB5NNNC
designator C?, comment 20pF
CAP CER 20PF 50V NP0 0402; Part Number: CL05C200JB5NNNC; Manufacturer: Samsung Electro-Mechanics America, Inc.; TemperatureRange: -55C ~ 125C; TemperatureCoefficient: C0G, NP0; Tolerance: 5%; Value: 20pF; PartId: 12503; Supplier 1: Digi-Key; Supplier Part Number 1: 1276-1661-2-ND; ComponentLink1Description: Datasheet; ComponentLink1URL: http://www.samsungsem.com/kr/support/product-search/mlcc/CL05C200JB5NNNC.jsp; ComponentLink2Description: Digi-Key Listing; ComponentLink2URL: https://www.digikey.com/product-detail/en/samsung-electro-mechanics-america-inc/CL05C200JB5NNNC/1276-1661-2-ND/3887319; Voltage: 50V; Price: 0.0023; Device Package: 0402 (1005 Metric)
footprint CAP 0402/1005
pins: 1, 2

## CL05C201JB5NNNC
designator C?, comment 200pF
CAP CER 200PF 50V NP0 0402; Part Number: CL05C201JB5NNNC; Manufacturer: Samsung Electro-Mechanics America, Inc.; TemperatureRange: -55C ~ 125C; TemperatureCoefficient: C0G, NP0; Tolerance: 5%; Value: 200pF; PartId: 12927; Supplier 1: Digi-Key; Supplier Part Number 1: 1276-1662-2-ND; ComponentLink1Description: Datasheet; ComponentLink1URL: http://www.samsungsem.com/kr/support/product-search/mlcc/CL05C201JB5NNNC.jsp; ComponentLink2Description: Digi-Key Listing; ComponentLink2URL: https://www.digikey.com/product-detail/en/samsung-electro-mechanics-america-inc/CL05C201JB5NNNC/1276-1662-2-ND/3887320; Voltage: 50V; Price: 0.0089; Device Package: 0402 (1005 Metric)
footprint CAP 0402/1005
pins: 1, 2

## CL05C220JB5NNNC
designator C?, comment 22pF
CAP CER 22PF 50V NP0 0402; Part Number: CL05C220JB5NNNC; Manufacturer: Samsung Electro-Mechanics America, Inc.; TemperatureRange: -55C ~ 125C; TemperatureCoefficient: C0G, NP0; Tolerance: 5%; Value: 22pF; PartId: 12434; Supplier 1: Digi-Key; Supplier Part Number 1: 1276-1116-2-ND; ComponentLink1Description: Datasheet; ComponentLink1URL: http://www.samsungsem.com/kr/support/product-search/mlcc/CL05C220JB5NNNC.jsp; ComponentLink2Description: Digi-Key Listing; ComponentLink2URL: https://www.digikey.com/product-detail/en/samsung-electro-mechanics-america-inc/CL05C220JB5NNNC/1276-1116-2-ND/3886774; Voltage: 50V; Price: 0.0021; Device Package: 0402 (1005 Metric)
footprint CAP 0402/1005
pins: 1, 2

## CL05C270JB5NNNC
designator C?, comment 27pF
CAP CER 27PF 50V NP0 0402; Part Number: CL05C270JB5NNNC; Manufacturer: Samsung Electro-Mechanics America, Inc.; TemperatureRange: -55C ~ 125C; TemperatureCoefficient: C0G, NP0; Tolerance: 5%; Value: 27pF; PartId: 12450; Supplier 1: Digi-Key; Supplier Part Number 1: 1276-1153-2-ND; ComponentLink1Description: Datasheet; ComponentLink1URL: http://www.samsungsem.com/kr/support/product-search/mlcc/CL05C270JB5NNNC.jsp; ComponentLink2Description: Digi-Key Listing; ComponentLink2URL: https://www.digikey.com/product-detail/en/samsung-electro-mechanics-america-inc/CL05C270JB5NNNC/1276-1153-2-ND/3886811; Voltage: 50V; Price: 0.0022; Device Package: 0402 (1005 Metric)
footprint CAP 0402/1005
pins: 1, 2

## CL05C271JB5NNNC
designator C?, comment 270pF
CAP CER 270PF 50V NP0 0402; Part Number: CL05C271JB5NNNC; Manufacturer: Samsung Electro-Mechanics America, Inc.; TemperatureRange: -55C ~ 125C; TemperatureCoefficient: C0G, NP0; Tolerance: 5%; Value: 270pF; PartId: 12715; Supplier 1: Digi-Key; Supplier Part Number 1: 1276-1673-2-ND; ComponentLink1Description: Datasheet; ComponentLink1URL: http://www.samsungsem.com/kr/support/product-search/mlcc/CL05C271JB5NNNC.jsp; ComponentLink2Description: Digi-Key Listing; ComponentLink2URL: https://www.digikey.com/product-detail/en/samsung-electro-mechanics-america-inc/CL05C271JB5NNNC/1276-1673-2-ND/3887331; Voltage: 50V; Price: 0.0041; Device Package: 0402 (1005 Metric)
footprint CAP 0402/1005
pins: 1, 2

## CL05C300JB5NNNC
designator C?, comment 30pF
CAP CER 30PF 50V NP0 0402; Part Number: CL05C300JB5NNNC; Manufacturer: Samsung Electro-Mechanics America, Inc.; TemperatureRange: -55C ~ 125C; TemperatureCoefficient: C0G, NP0; Tolerance: 5%; Value: 30pF; PartId: 12840; Supplier 1: Digi-Key; Supplier Part Number 1: 1276-1682-2-ND; ComponentLink1Description: Datasheet; ComponentLink1URL: http://www.samsungsem.com/kr/support/product-search/mlcc/CL05C300JB5NNNC.jsp; ComponentLink2Description: Digi-Key Listing; ComponentLink2URL: https://www.digikey.com/product-detail/en/samsung-electro-mechanics-america-inc/CL05C300JB5NNNC/1276-1682-2-ND/3887340; Voltage: 50V; Price: 0.0044; Device Package: 0402 (1005 Metric)
footprint CAP 0402/1005
pins: 1, 2

## CL05C330JB5NNNC
designator C?, comment 33pF
CAP CER 33PF 50V NP0 0402; Part Number: CL05C330JB5NNNC; Manufacturer: Samsung Electro-Mechanics America, Inc.; TemperatureRange: -55C ~ 125C; TemperatureCoefficient: C0G, NP0; Tolerance: 5%; Value: 33pF; PartId: 12383; Supplier 1: Digi-Key; Supplier Part Number 1: 1276-1272-2-ND; ComponentLink1Description: Datasheet; ComponentLink1URL: http://www.samsungsem.com/kr/support/product-search/mlcc/CL05C330JB5NNNC.jsp; ComponentLink2Description: Digi-Key Listing; ComponentLink2URL: https://www.digikey.com/product-detail/en/samsung-electro-mechanics-america-inc/CL05C330JB5NNNC/1276-1272-2-ND/3886930; Voltage: 50V; Price: 0.0022; Device Package: 0402 (1005 Metric)
footprint CAP 0402/1005
pins: 1, 2

## CL05C331JB5NNNC
designator C?, comment 330pF
CAP CER 330PF 50V NP0 0402; Part Number: CL05C331JB5NNNC; Manufacturer: Samsung Electro-Mechanics America, Inc.; TemperatureRange: -55C ~ 125C; TemperatureCoefficient: C0G, NP0; Tolerance: 5%; Value: 330pF; PartId: 12674; Supplier 1: Digi-Key; Supplier Part Number 1: 1276-1685-2-ND; ComponentLink1Description: Datasheet; ComponentLink1URL: http://www.samsungsem.com/kr/support/product-search/mlcc/CL05C331JB5NNNC.jsp; ComponentLink2Description: Digi-Key Listing; ComponentLink2URL: https://www.digikey.com/product-detail/en/samsung-electro-mechanics-america-inc/CL05C331JB5NNNC/1276-1685-2-ND/3887343; Voltage: 50V; Price: 0.0054; Device Package: 0402 (1005 Metric)
footprint CAP 0402/1005
pins: 1, 2

## CL05C390JB5NNNC
designator C?, comment 39pF
CAP CER 39PF 50V NP0 0402; Part Number: CL05C390JB5NNNC; Manufacturer: Samsung Electro-Mechanics America, Inc.; TemperatureRange: -55C ~ 125C; TemperatureCoefficient: C0G, NP0; Tolerance: 5%; Value: 39pF; PartId: 12429; Supplier 1: Digi-Key; Supplier Part Number 1: 1276-1016-2-ND; ComponentLink1Description: Datasheet; ComponentLink1URL: http://www.samsungsem.com/kr/support/product-search/mlcc/CL05C390JB5NNNC.jsp; ComponentLink2Description: Digi-Key Listing; ComponentLink2URL: https://www.digikey.com/product-detail/en/samsung-electro-mechanics-america-inc/CL05C390JB5NNNC/1276-1016-2-ND/3886674; Voltage: 50V; Price: 0.0023; Device Package: 0402 (1005 Metric)
footprint CAP 0402/1005
pins: 1, 2

## CL05C470JB5NCNC
designator C?, comment 47pF
CAP CER 47PF 50V NP0 0402; Part Number: CL05C470JB5NCNC; Manufacturer: Samsung Electro-Mechanics America, Inc.; TemperatureRange: -55C ~ 125C; TemperatureCoefficient: C0G, NP0; Tolerance: 5%; Value: 47pF; PartId: 12785; Supplier 1: Digi-Key; Supplier Part Number 1: 1276-1698-2-ND; ComponentLink1Description: Datasheet; ComponentLink1URL: http://www.samsungsem.com/kr/support/library/product-catalog/__icsFiles/afieldfile/2015/11/18/MLCC.pdf; ComponentLink2Description: Digi-Key Listing; ComponentLink2URL: https://www.digikey.com/product-detail/en/samsung-electro-mechanics-america-inc/CL05C470JB5NCNC/1276-1698-2-ND/3887356; Voltage: 50V; Price: 0.0026; Device Package: 0402 (1005 Metric)
footprint CAP 0402/1005
pins: 1, 2

## CL05C470JB5NNNC
designator C?, comment 47pF
CAP CER 47PF 50V NP0 0402; Part Number: CL05C470JB5NNNC; Manufacturer: Samsung Electro-Mechanics America, Inc.; TemperatureRange: -55C ~ 125C; TemperatureCoefficient: C0G, NP0; Tolerance: 5%; Value: 47pF; PartId: 12603; Supplier 1: Digi-Key; Supplier Part Number 1: 1276-1699-2-ND; ComponentLink1Description: Datasheet; ComponentLink1URL: http://www.samsungsem.com/kr/support/product-search/mlcc/CL05C470JB5NNNC.jsp; ComponentLink2Description: Digi-Key Listing; ComponentLink2URL: https://www.digikey.com/product-detail/en/samsung-electro-mechanics-america-inc/CL05C470JB5NNNC/1276-1699-2-ND/3887357; Voltage: 50V; Price: 0.0021; Device Package: 0402 (1005 Metric)
footprint CAP 0402/1005
pins: 1, 2

## CL05C560JB5NNNC
designator C?, comment 56pF
CAP CER 56PF 50V NP0 0402; Part Number: CL05C560JB5NNNC; Manufacturer: Samsung Electro-Mechanics America, Inc.; TemperatureRange: -55C ~ 125C; TemperatureCoefficient: C0G, NP0; Tolerance: 5%; Value: 56pF; PartId: 12724; Supplier 1: Digi-Key; Supplier Part Number 1: 1276-1707-2-ND; ComponentLink1Description: Datasheet; ComponentLink1URL: http://www.samsungsem.com/kr/support/product-search/mlcc/CL05C560JB5NNNC.jsp; ComponentLink2Description: Digi-Key Listing; ComponentLink2URL: https://www.digikey.com/product-detail/en/samsung-electro-mechanics-america-inc/CL05C560JB5NNNC/1276-1707-2-ND/3887365; Voltage: 50V; Price: 0.0022; Device Package: 0402 (1005 Metric)
footprint CAP 0402/1005
pins: 1, 2

## CL05C680JB5NNNC
designator C?, comment 68pF
CAP CER 68PF 50V NP0 0402; Part Number: CL05C680JB5NNNC; Manufacturer: Samsung Electro-Mechanics America, Inc.; TemperatureRange: -55C ~ 125C; TemperatureCoefficient: C0G, NP0; Tolerance: 5%; Value: 68pF; PartId: 12786; Supplier 1: Digi-Key; Supplier Part Number 1: 1276-1030-2-ND; ComponentLink1Description: Datasheet; ComponentLink1URL: http://www.samsungsem.com/kr/support/product-search/mlcc/CL05C680JB5NNNC.jsp; ComponentLink2Description: Digi-Key Listing; ComponentLink2URL: https://www.digikey.com/product-detail/en/samsung-electro-mechanics-america-inc/CL05C680JB5NNNC/1276-1030-2-ND/3886688; Voltage: 50V; Price: 0.0023; Device Package: 0402 (1005 Metric)
footprint CAP 0402/1005
pins: 1, 2